# Altium footprint library SMD_Passive.PcbLib: 18 footprints (part 2 of 2)
Each footprint in its own frame and in the unit in brackets; x right, y up, seen from the top. Pads: shape width x height; smd on the part's side, far side on the other; paste and mask are expansions set on the pad; w line width, h text height; cw(c..) or ccw(c..) is an arc to the next point about the centre after c.
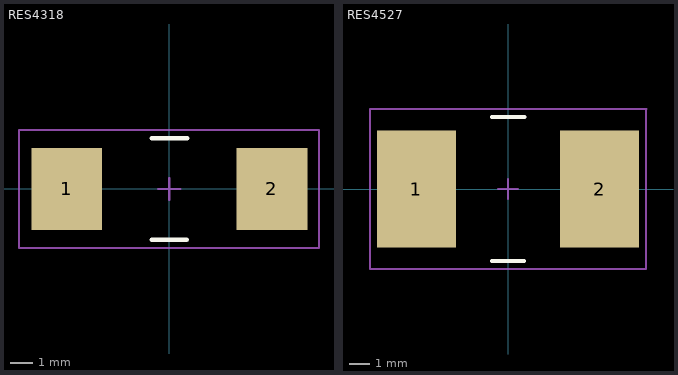
[diagram p1: the footprints below, top view; thin cyan lines are the x and y axes]

## RES4318 [mm]
pads (2):
  rect 3.2x3.7 smd: 1(-4.65,0) 2(4.65,0)
Top Overlay:
  lines w0.2: -0.8,-2.3 0.8,-2.3 ; -0.787,2.3 0.813,2.3
Mechanical 15:
  lines w0.1: -0.5,0 0.5,0 ; 0,-0.5 0,0.5 ; -6.807,-2.667 -6.807,2.667 6.782,2.667 6.782,-2.667 -6.807,-2.667
3D body "pwr4318w5r00je.stp": height 4.5, standoff -0.15, extent -5.525,-2.311 5.475,2.189

## RES4527 [mm]
pads (2):
  rect 3.94x5.84 smd: 1(-4.575,0) 2(4.575,0)
Top Overlay:
  lines w0.2: -0.8,-3.6 0.8,-3.6 ; -0.787,3.6 0.813,3.6
Mechanical 15:
  lines w0.1: -6.9,4 -6.9,-4 6.9,-4 6.9,4 ; -6.858,4 6.909,4 ; -0.5,0 0.5,0 ; 0,-0.5 0,0.5
3D body "User Library-Vishay_2_Watt_RES_WSC0002_WSC4527.step": height 4.48, standoff -0.01, extent -6.02,-3.556 6.045,3.551